# EAGLE library part FPC-29WAY (library pimoroni-fpc)
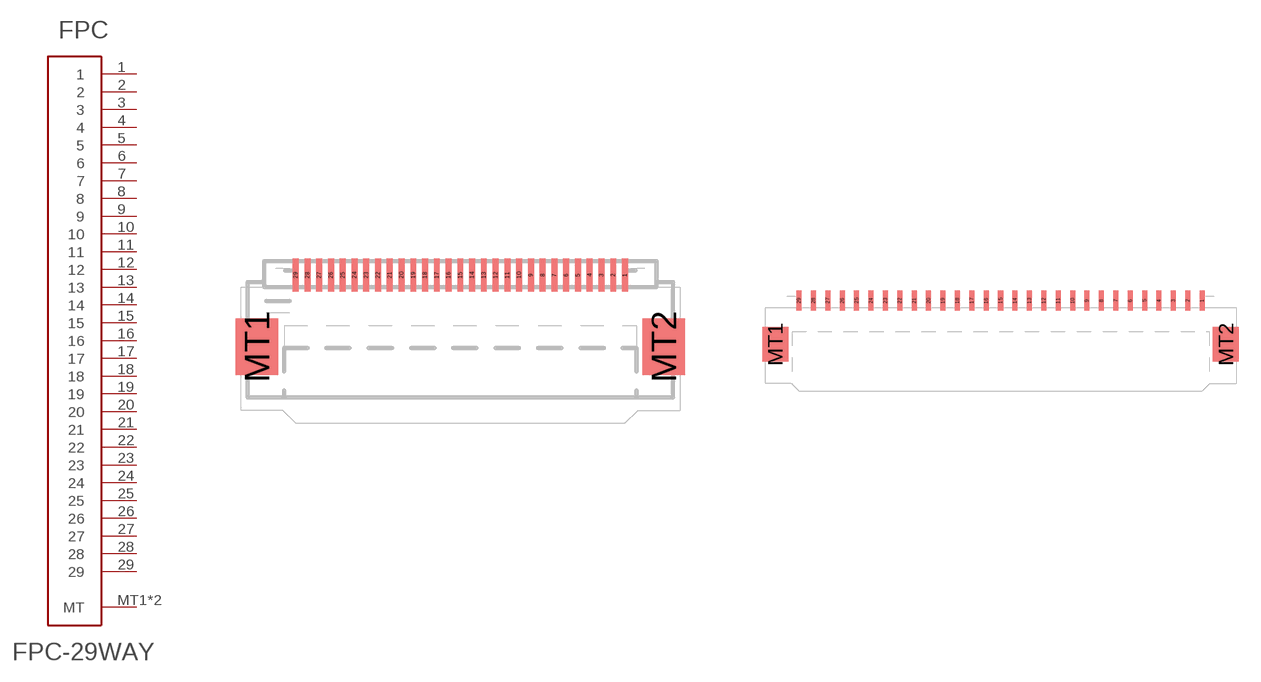
[diagram p24: symbol with the pads of FPC-0.5MM-29WAY; footprints FPC-0.5MM-29WAY, FPC-1.0MM-29WAY]

Designator prefix FPC

## FPC-29WAY0.5  [FPC-0.5MM-29WAY]
1  1
2  2
3  3
4  4
5  5
6  6
7  7
8  8
9  9
10  10
11  11
12  12
13  13
14  14
15  15
16  16
17  17
18  18
19  19
20  20
21  21
22  22
23  23
24  24
25  25
26  26
27  27
28  28
29  29
MT1  MT
MT2  MT

## FPC-29WAY1.0  [FPC-1.0MM-29WAY]
Pads as for FPC-0.5MM-29WAY

## Footprint FPC-0.5MM-29WAY (pad centres in mm)
smd 0.25 x 1.4: 1 7,0.7; 2 6.5,0.7; 3 6,0.7; 4 5.5,0.7; 5 5,0.7; 6 4.5,0.7; 7 4,0.7; 8 3.5,0.7; 9 3,0.7; 10 2.5,0.7; 11 2,0.7; 12 1.5,0.7; 13 1,0.7; 14 0.5,0.7; 15 0,0.7; 16 -0.5,0.7; 17 -1,0.7; 18 -1.5,0.7; 19 -2,0.7; 20 -2.5,0.7; 21 -3,0.7; 22 -3.5,0.7; 23 -4,0.7; 24 -4.5,0.7; 25 -5,0.7; 26 -5.5,0.7; 27 -6,0.7; 28 -6.5,0.7; 29 -7,0.7
smd 1.8 x 2.4: MT1 -8.65,-2.35; MT2 8.65,-2.35

## Footprint FPC-1.0MM-29WAY (pad centres in mm)
smd 0.35 x 1.4: 1 14,0.7; 2 13,0.7; 3 12,0.7; 4 11,0.7; 5 10,0.7; 6 9,0.7; 7 8,0.7; 8 7,0.7; 9 6,0.7; 10 5,0.7; 11 4,0.7; 12 3,0.7; 13 2,0.7; 14 1,0.7; 15 0,0.7; 16 -1,0.7; 17 -2,0.7; 18 -3,0.7; 19 -4,0.7; 20 -5,0.7; 21 -6,0.7; 22 -7,0.7; 23 -8,0.7; 24 -9,0.7; 25 -10,0.7; 26 -11,0.7; 27 -12,0.7; 28 -13,0.7; 29 -14,0.7
smd 1.8 x 2.4: MT1 -15.65,-2.35; MT2 15.65,-2.35